# EAGLE library part BQ2429X (library GTA04b7)
BQ24295/6/7 (small differences in pins and external inductor needed)
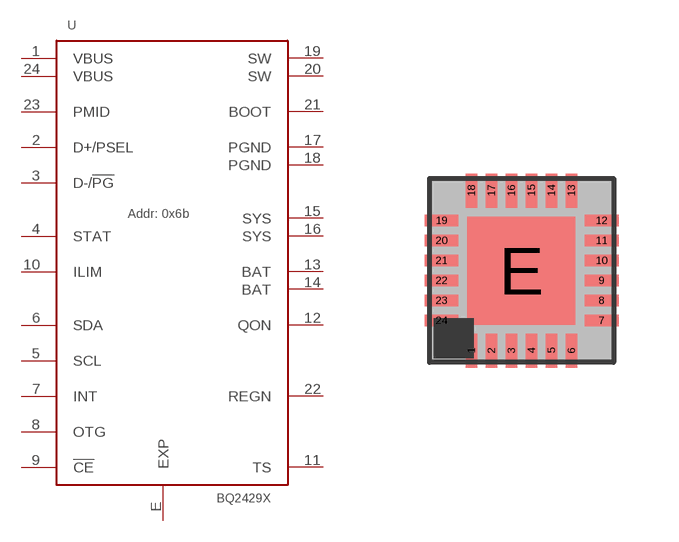
[diagram p8: symbol with the pads of S-PVQFN-N24-0.5; footprint S-PVQFN-N24-0.5]

Designator prefix -

## BQ2429XRGE  [S-PVQFN-N24-0.5]
1  VBUS  pwr
2  D+/PSEL  pas
3  D-/!PG  pas
4  STAT  oc
5  SCL  in
6  SDA
7  INT  out
8  OTG  in
9  !CE  in
10  ILIM  pas
11  TS  pas
12  QON  pas
13  BAT  pwr
14  BAT  pwr
15  SYS  pwr
16  SYS  pwr
17  PGND  pwr
18  PGND  pwr
19  SW  pwr
20  SW  pwr
21  BOOT  pas
22  REGN  pas
23  PMID  pas
24  VBUS  pwr
E  EXP  pwr

## Footprint S-PVQFN-N24-0.5 (pad centres in mm)
RGE (S-PVQFN-N24)
smd 0.28 x 0.85: 1 -1.25,-2; 2 -0.75,-2; 3 -0.25,-2; 4 0.25,-2; 5 0.75,-2; 6 1.25,-2; 13 1.25,2; 14 0.75,2; 15 0.25,2; 16 -0.25,2; 17 -0.75,2; 18 -1.25,2
smd 0.85 x 0.28: 7 2,-1.25; 8 2,-0.75; 9 2,-0.25; 10 2,0.25; 11 2,0.75; 12 2,1.25; 19 -2,1.25; 20 -2,0.75; 21 -2,0.25; 22 -2,-0.25; 23 -2,-0.75; 24 -2,-1.25
smd 2.7 x 2.7: E 0,0